# EAGLE library part ATMEGA8L-8PU (library timer_switch)
MICROCHIP - ATMEGA8L-8PU - MCU, 8BIT, ATMEGA, 8MHZ, DIP-28 Source: Datasheet <http://ww1.microchip.com/downloads/en/DeviceDoc/Atmel-2486-8-bit-AVR-microcontroller-ATmega8_L_datasheet.pdf>
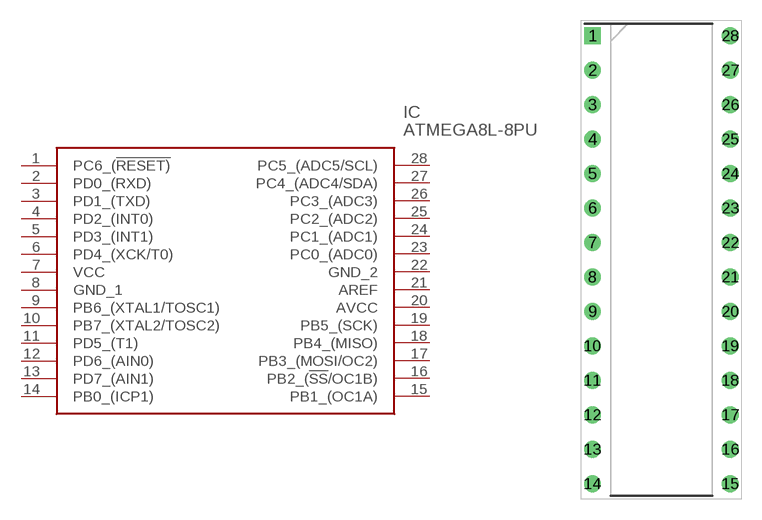
[diagram p0: symbol with the pads of DIP1016W53P254L3467H457Q28N; footprint DIP1016W53P254L3467H457Q28N]

Designator prefix IC

## ATMEGA8L-8PU (ARROW_PART_NUMBER: ATMEGA8L-8PU; ARROW_PRICE-STOCK: https://www.arrow.com/en/products/atmega8l-8pu/microchip-technology; DESCRIPTION: MICROCHIP - ATMEGA8L-8PU - MCU, 8BIT, ATMEGA, 8MHZ, DIP-28; HEIGHT: 4.572mm; MANUFACTURER_NAME: Microchip; MANUFACTURER_PART_NUMBER: ATMEGA8L-8PU; RS_PART_NUMBER: 1310375; RS_PRICE-STOCK: http://uk.rs-online.com/web/p/products/1310375)  [DIP1016W53P254L3467H457Q28N]
1  PC6_(!RESET)
2  PD0_(RXD)
3  PD1_(TXD)
4  PD2_(INT0)
5  PD3_(INT1)
6  PD4_(XCK/T0)
7  VCC
8  GND_1
9  PB6_(XTAL1/TOSC1)
10  PB7_(XTAL2/TOSC2)
11  PD5_(T1)
12  PD6_(AIN0)
13  PD7_(AIN1)
14  PB0_(ICP1)
15  PB1_(OC1A)
16  PB2_(!SS!/OC1B)
17  PB3_(MOSI/OC2)
18  PB4_(MISO)
19  PB5_(SCK)
20  AVCC
21  AREF
22  GND_2
23  PC0_(ADC0)
24  PC1_(ADC1)
25  PC2_(ADC2)
26  PC3_(ADC3)
27  PC4_(ADC4/SDA)
28  PC5_(ADC5/SCL)

## Footprint DIP1016W53P254L3467H457Q28N (pad centres in mm)
28P3
drill 0.733 pad 1.133 square: 1 -5.08,16.51
drill 0.733 pad 1.133: 2 -5.08,13.97; 3 -5.08,11.43; 4 -5.08,8.89; 5 -5.08,6.35; 6 -5.08,3.81; 7 -5.08,1.27; 8 -5.08,-1.27; 9 -5.08,-3.81; 10 -5.08,-6.35; 11 -5.08,-8.89; 12 -5.08,-11.43; 13 -5.08,-13.97; 14 -5.08,-16.51; 15 5.08,-16.51; 16 5.08,-13.97; 17 5.08,-11.43; 18 5.08,-8.89; 19 5.08,-6.35; 20 5.08,-3.81; 21 5.08,-1.27; 22 5.08,1.27; 23 5.08,3.81; 24 5.08,6.35; 25 5.08,8.89; 26 5.08,11.43; 27 5.08,13.97; 28 5.08,16.51